# EAGLE library part MCP6004-I_SL (library SamacSys_Parts)
1MHz Low Power Quad Op Amplifier Source: Datasheet <http://ww1.microchip.com/downloads/en/DeviceDoc/21733j.pdf>
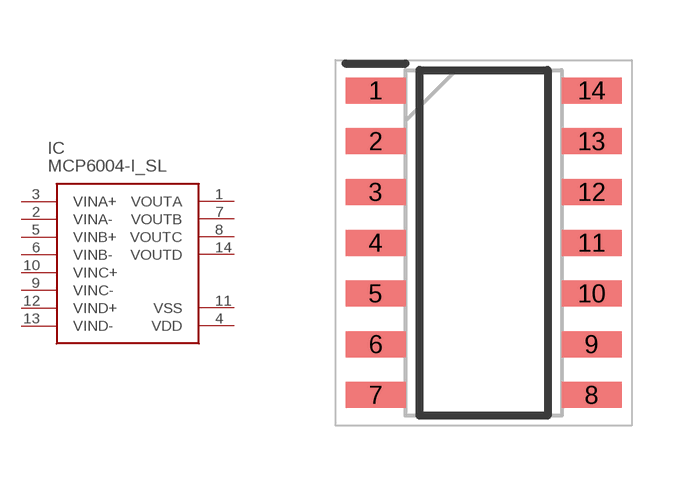
[diagram p9: symbol with the pads of SOIC127P600X175-14N; footprint SOIC127P600X175-14N]

Designator prefix IC

## MCP6004-I_SL (ARROW_PART_NUMBER: MCP6004-I/SL; ARROW_PRICE-STOCK: https://www.arrow.com/en/products/mcp6004-isl/microchip-technology; DESCRIPTION: 1MHz Low Power Quad Op Amplifier; HEIGHT: 1.75mm; MANUFACTURER_NAME: Microchip; MANUFACTURER_PART_NUMBER: MCP6004-I/SL; MOUSER_PART_NUMBER: 579-MCP6004-I/SL; MOUSER_PRICE-STOCK: https://www.mouser.co.uk/ProductDetail/Microchip-Technology/MCP6004-I-SL?qs=n%2FfJlMG9rCZ2%2F%2FCryvZ52w%3D%3D)  [SOIC127P600X175-14N]
1  VOUTA
2  VINA-
3  VINA+
4  VDD
5  VINB+
6  VINB-
7  VOUTB
8  VOUTC
9  VINC-
10  VINC+
11  VSS
12  VIND+
13  VIND-
14  VOUTD

## Footprint SOIC127P600X175-14N (pad centres in mm)
14-LEAD PSO (SL) - NARROW
smd 1.5 x 0.65: 1 -2.7,3.81; 2 -2.7,2.54; 3 -2.7,1.27; 4 -2.7,0; 5 -2.7,-1.27; 6 -2.7,-2.54; 7 -2.7,-3.81; 8 2.7,-3.81; 9 2.7,-2.54; 10 2.7,-1.27; 11 2.7,0; 12 2.7,1.27; 13 2.7,2.54; 14 2.7,3.81